# Altium footprint library PBD_ALL.PcbLib: 1 footprints
Each footprint in its own frame and in the unit in brackets; x right, y up, seen from the top. Pads: shape width x height; smd on the part's side, far side on the other; paste and mask are expansions set on the pad; w line width, h text height; cw(c..) or ccw(c..) is an arc to the next point about the centre after c.
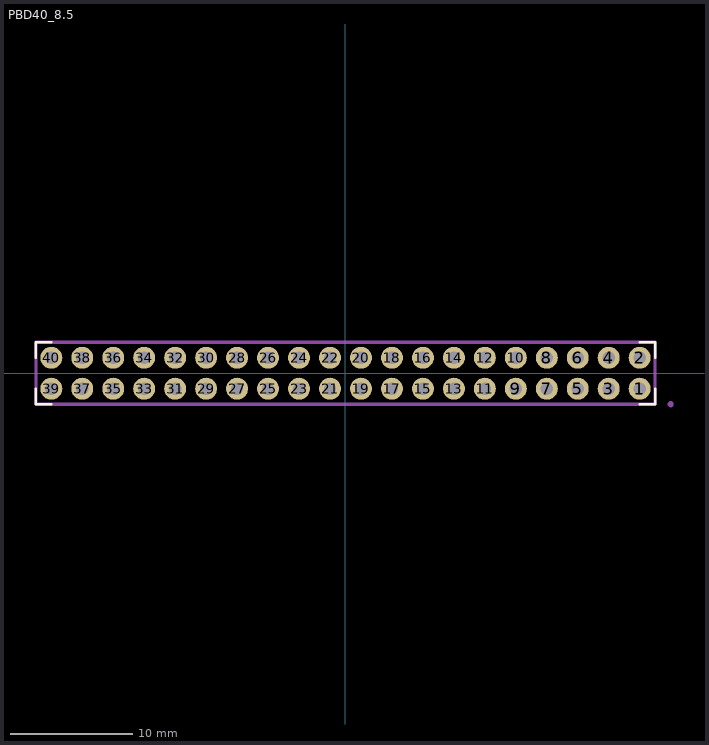
[diagram p0: the footprint, top view; thin cyan lines are the x and y axes]

## PBD40_8.5 [mm]
pads (40):
  round 1.8 hole 1: 1(24.13,-1.27) 2(24.13,1.27) 3(21.59,-1.27) 4(21.59,1.27) 5(19.05,-1.27) 6(19.05,1.27) 7(16.51,-1.27) 8(16.51,1.27) 9(13.97,-1.27) 10(13.97,1.27) 11(11.43,-1.27) 12(11.43,1.27) 13(8.89,-1.27) 14(8.89,1.27) 15(6.35,-1.27) 16(6.35,1.27) 17(3.81,-1.27) 18(3.81,1.27) 19(1.27,-1.27) 20(1.27,1.27) 21(-1.27,-1.27) 22(-1.27,1.27) 23(-3.81,-1.27) 24(-3.81,1.27) 25(-6.35,-1.27) 26(-6.35,1.27) 27(-8.89,-1.27) 28(-8.89,1.27) 29(-11.43,-1.27) 30(-11.43,1.27) 31(-13.97,-1.27) 32(-13.97,1.27) 33(-16.51,-1.27) 34(-16.51,1.27) 35(-19.05,-1.27) 36(-19.05,1.27) 37(-21.59,-1.27) 38(-21.59,1.27) 39(-24.13,-1.27) 40(-24.13,1.27)
Top Overlay:
  lines w0.2: -25.4,-1.27 -25.4,-2.54 -24.13,-2.54 ; -25.4,1.27 -25.4,2.54 -24.13,2.54 ; 24.13,-2.54 25.4,-2.54 25.4,-1.27 ; 24.13,2.54 25.4,2.54 25.4,1.27
Mechanical 13 (Mech13):
  circle w0.254: c26.67,-2.54 r0.125
  lines w0.254: -25.4,-2.54 25.4,-2.54 25.4,2.54 -25.4,2.54 -25.4,-2.54
  text ".Designator" at 16.51,3.81 h2.15
3D body "User Library-PBD2_54-40.STEP": height 8.4, standoff -2.7, extent -25.4,-2.54 25.4,2.54